# Altium footprint library SamacSys.PcbLib: 20 footprints (part 2 of 2)
Each footprint in its own frame and in the unit in brackets; x right, y up, seen from the top. Pads: shape width x height; smd on the part's side, far side on the other; paste and mask are expansions set on the pad; w line width, h text height; cw(c..) or ccw(c..) is an arc to the next point about the centre after c.
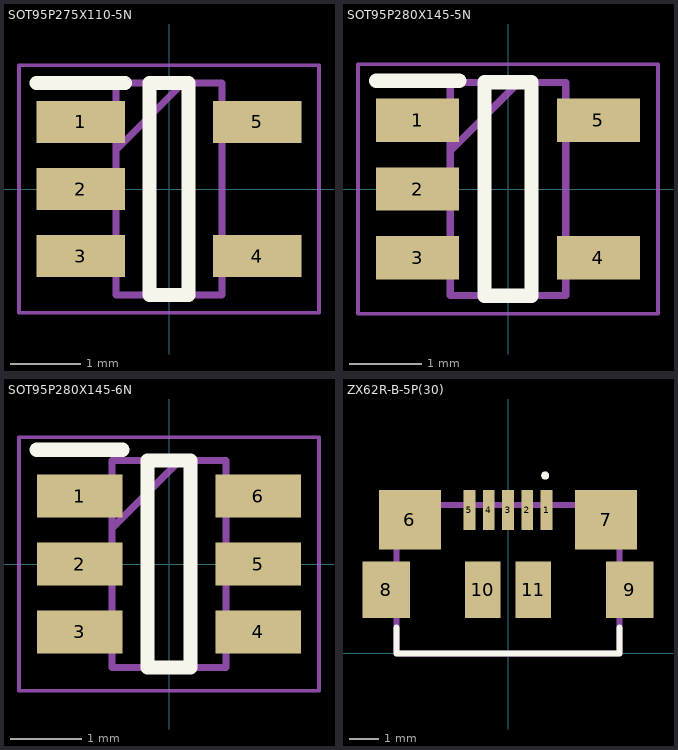
[diagram p1: the footprints below, top view; thin cyan lines are the x and y axes]

## SOT95P275X110-5N [mm]
pads (5):
  rect 1.25x0.6 smd: 1(-1.25,0.95) 2(-1.25,0) 3(-1.25,-0.95) 4(1.25,-0.95) 5(1.25,0.95)
Top Overlay:
  lines w0.2: -1.875,1.5 -0.625,1.5 ; -0.275,-1.5 -0.275,1.5 0.275,1.5 0.275,-1.5 -0.275,-1.5
Mechanical 13:
  lines w0.1: -0.75,0.55 0.2,1.5 ; -0.75,-1.5 -0.75,1.5 0.75,1.5 0.75,-1.5 -0.75,-1.5
Mechanical 15:
  lines w0.05: -2.125,-1.75 -2.125,1.75 2.125,1.75 2.125,-1.75 -2.125,-1.75
3D body "NCP302LSN20T1G.stp": height 1.1, standoff 0, extent -1.375,-1.5 1.375,1.5

## SOT95P280X145-5N [mm]
pads (5):
  rect 1.15x0.6 smd: 1(-1.25,0.95) 2(-1.25,0) 3(-1.25,-0.95) 4(1.25,-0.95) 5(1.25,0.95)
Top Overlay:
  lines w0.2: -1.825,1.5 -0.675,1.5 ; -0.325,-1.475 -0.325,1.475 0.325,1.475 0.325,-1.475 -0.325,-1.475
Mechanical 13:
  lines w0.1: -0.8,0.525 0.15,1.475 ; -0.8,-1.475 -0.8,1.475 0.8,1.475 0.8,-1.475 -0.8,-1.475
Mechanical 15:
  lines w0.05: -2.075,-1.725 -2.075,1.725 2.075,1.725 2.075,-1.725 -2.075,-1.725
3D body "LDCL015M33R.stp": height 1.45, standoff 0, extent -1.4,-1.475 1.4,1.475

## SOT95P280X145-6N [mm]
pads (6):
  rect 1.2x0.6 smd: 1(-1.25,0.95) 2(-1.25,0) 3(-1.25,-0.95) 4(1.25,-0.95) 5(1.25,0) 6(1.25,0.95)
Top Overlay:
  lines w0.2: -1.85,1.6 -0.65,1.6 ; -0.3,-1.45 -0.3,1.45 0.3,1.45 0.3,-1.45 -0.3,-1.45
Mechanical 13:
  lines w0.1: -0.8,0.5 0.15,1.45 ; -0.8,-1.45 -0.8,1.45 0.8,1.45 0.8,-1.45 -0.8,-1.45
Mechanical 15:
  lines w0.05: -2.1,-1.775 -2.1,1.775 2.1,1.775 2.1,-1.775 -2.1,-1.775
3D body "TLV61220DBVR.stp": height 1.45, standoff 0, extent -1.4,-1.45 1.4,1.45

## ZX62R-B-5P(30) [mm]
pads (11):
  rect 0.4x1.35 smd: 1(1.3,4.825) 2(0.65,4.825) 3(0,4.825) 4(-0.65,4.825) 5(-1.3,4.825)
  rect 2.1x2 smd: 6(-3.3,4.5) 7(3.3,4.5)
  rect 1.6x1.9 smd: 8(-4.1,2.15) 9(4.1,2.15)
  rect 1.2x1.9 smd: 10(-0.85,2.15) 11(0.85,2.15)
Top Overlay:
  circle w0.2: c1.253,5.991 r0.034
  lines w0.2: -3.75,0.875 -3.75,0 3.75,0 3.75,0.875
Mechanical 13:
  lines w0.2: -3.75,0 -3.75,5 3.75,5 3.75,0 -3.75,0
3D body "ZX62R-B-5P_30_.stp": height 5.6, standoff -0.13, extent -3.1,-0.23 5.7,2.71